# Altium schematic symbol library UOMP_crystals.SchLib: 5 symbols
Pins are listed as number, name and electrical type; pins without a type are passive.

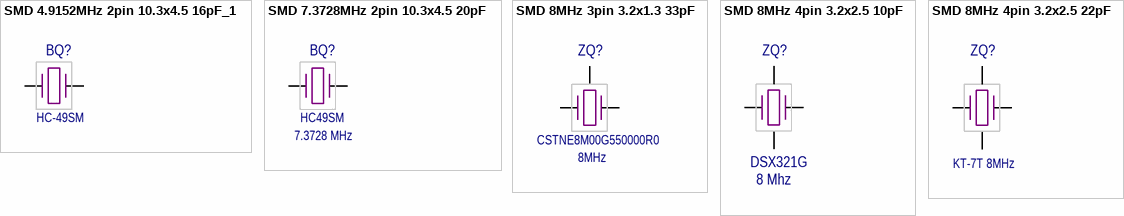
[diagram p0: symbols SMD 4.9152MHz 2pin 10.3x4.5 16pF_1 to SMD 8MHz 4pin 3.2x2.5 22pF]

## SMD 4.9152MHz 2pin 10.3x4.5 16pF_1
designator BQ?, comment HC-49SM
Name: Резонатор кварцевый HC49SM 7.3728 MHz; Code: 6321974907; Parameter 1: 7.3728 MHz
footprint CRYSTAL: HC-49SM
pins: 1, 2

## SMD 7.3728MHz 2pin 10.3x4.5 20pF
designator BQ?, comment HC49SM  Parameter 1: 7.3728 MHz
Name: Резонатор кварцевый HC49SM 7.3728 MHz; Code: 6321974907
footprint CRYSTAL: HC-49SM
pins: 1, 2

## SMD 8MHz 3pin 3.2x1.3 33pF
designator ZQ?, comment CSTNE8M00G550000R0
8MHz; Name: Резонатор кварцевый CSTNE8M00G55; Code: 6329544901; Parameter 1: 8MHz
footprint CRYSTAL: 3213 3pin
pins: 1, 2, 3

## SMD 8MHz 4pin 3.2x2.5 10pF
designator ZQ?, comment DSX321G  Parameter 1: 8 Mhz
Code: 6329546061; Name: Резонатор кварцевый DSX321G 8Mhz, KDS
footprint CRYSTAL: 3225 4pin
pins: 1, 2, 3, 4

## SMD 8MHz 4pin 3.2x2.5 22pF
designator ZQ?, comment KT-7T 8MHz
Code: 6329545441; Name: Резонатор кварцевый KT-7X 8.0 MHz
footprint CRYSTAL: 3225 4pin
pins: 1, 2, 3, 4